# Altium integrated library Comparators.IntLib: 35 symbols
Pins are listed as number, name and electrical type; pins without a type are passive.

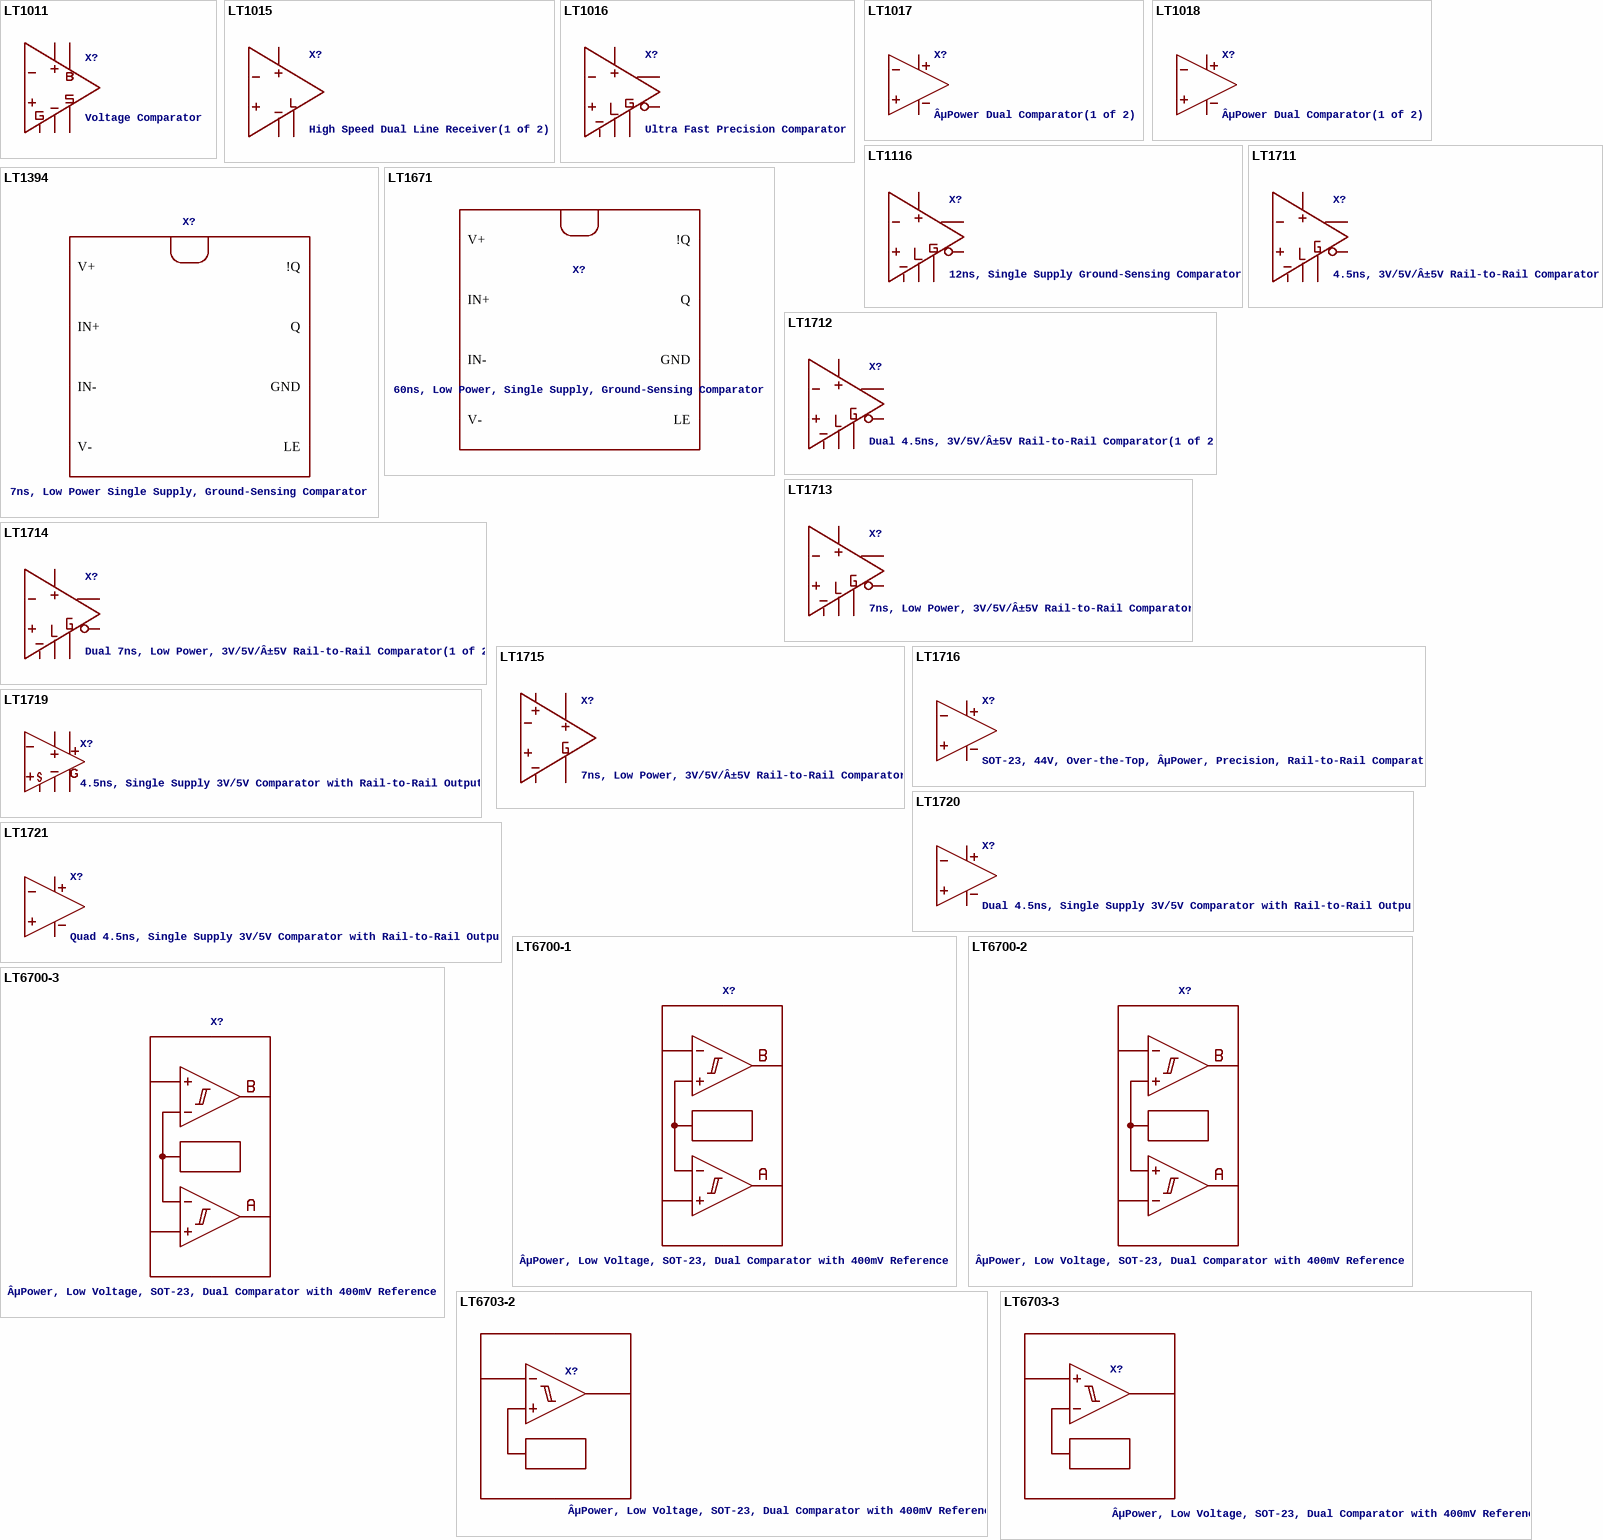
[diagram p0: symbols LT1011 to LT6703-3]

## LT1011
designator X?, comment Voltage Comparator
VALUE2: LT1011; SPICEMODEL: LTC1.lib
pins: ?1 GND, ?2 IN+, ?3 IN-, ?4 V-, ?5 BAL, ?6 STROBE, ?7 OUT, ?8 V+

## LT1015
designator X?, comment High Speed Dual Line Receiver(1 of 2)
VALUE2: LT1015; SPICEMODEL: LTC1.lib
pins: ?1 IN+, ?2 IN-, ?3 VCC, ?4 VEE, ?5 OUT+, ?6 LATCH

## LT1016
designator X?, comment Ultra Fast Precision Comparator
VALUE2: LT1016; SPICEMODEL: LTC.lib
pins: ?1 V+, ?2 IN+, ?3 IN-, ?4 V-, ?5 LATCH, ?6 GND, ?7 OUT+, ?8 OUT-

## LT1017
designator X?, comment ÂµPower Dual Comparator(1 of 2)
VALUE2: LT1017; SPICEMODEL: LTC1.lib
pins: ?1 IN+, ?2 IN-, ?3 V+, ?4 V-, ?5 OUT

## LT1018
designator X?, comment ÂµPower Dual Comparator(1 of 2)
VALUE2: LT1018; SPICEMODEL: LTC1.lib
pins: ?1 IN+, ?2 IN-, ?3 V+, ?4 V-, ?5 OUT

## LT1116
designator X?, comment 12ns, Single Supply Ground-Sensing Comparator
VALUE2: LT1116; SPICEMODEL: LTC.lib
pins: ?1 V+, ?2 IN+, ?3 IN-, ?4 V-, ?5 LATCH, ?6 GND, ?7 OUT+, ?8 OUT-

## LT1394
designator X?, comment 7ns, Low Power Single Supply, Ground-Sensing Comparator
VALUE2: LT1394; SPICEMODEL: LTC.lib
pins: ?1 V+, ?2 IN+, ?3 IN-, ?4 V-, ?5 LE, ?6 GND, ?7 Q, ?8 !Q

## LT1671
designator X?, comment 60ns, Low Power, Single Supply, Ground-Sensing Comparator
VALUE2: LT1671; SPICEMODEL: LTC.lib
pins: ?1 V+, ?2 IN+, ?3 IN-, ?4 V-, ?5 LE, ?6 GND, ?7 Q, ?8 !Q

## LT1711
designator X?, comment 4.5ns, 3V/5V/Â±5V Rail-to-Rail Comparator
VALUE2: LT1711; SPICEMODEL: LTC1.lib
pins: ?1 IN+, ?2 IN-, ?3 V+, ?4 V-, ?5 GND, ?6 OUT+, ?7 OUT-, ?8 LATCH

## LT1712
designator X?, comment Dual 4.5ns, 3V/5V/Â±5V Rail-to-Rail Comparator(1 of 2)
VALUE2: LT1711; SPICEMODEL: LTC1.lib
pins: ?1 IN+, ?2 IN-, ?3 V+, ?4 V-, ?5 GND, ?6 OUT+, ?7 OUT-, ?8 LATCH

## LT1713
designator X?, comment 7ns, Low Power, 3V/5V/Â±5V Rail-to-Rail Comparator
VALUE2: LT1713; SPICEMODEL: LTC1.lib
pins: ?1 IN+, ?2 IN-, ?3 V+, ?4 V-, ?5 GND, ?6 OUT+, ?7 OUT-, ?8 LATCH

## LT1714
designator X?, comment Dual 7ns, Low Power, 3V/5V/Â±5V Rail-to-Rail Comparator(1 of 2)
VALUE2: LT1713; SPICEMODEL: LTC1.lib
pins: ?1 IN+, ?2 IN-, ?3 V+, ?4 V-, ?5 GND, ?6 OUT+, ?7 OUT-, ?8 LATCH

## LT1715
designator X?, comment 7ns, Low Power, 3V/5V/Â±5V Rail-to-Rail Comparator
VALUE2: LT1715; SPICEMODEL: LTC1.lib
pins: ?1 IN+, ?2 IN-, ?3 VCC, ?4 VEE, ?5 VS+, ?6 GND, ?7 OUT

## LT1716
designator X?, comment SOT-23, 44V, Over-the-Top, ÂµPower, Precision, Rail-to-Rail Comparator
VALUE2: LT1716; SPICEMODEL: LTC1.lib
pins: ?1 IN+, ?2 IN-, ?3 V+, ?4 V-, ?5 OUT

## LT1719
designator X?, comment 4.5ns, Single Supply 3V/5V Comparator with Rail-to-Rail Outputs
VALUE2: LT1719; SPICEMODEL: LTC.lib
pins: ?1 V+, ?2 IN+, ?3 IN-, ?4 V-, ?5 GND, ?6 SHDN, ?7 OUT, ?8 VS+

## LT1720
designator X?, comment Dual 4.5ns, Single Supply 3V/5V Comparator with Rail-to-Rail Outputs
VALUE2: LT1720; SPICEMODEL: LTC.lib
pins: ?1 IN+, ?2 IN-, ?3 V+, ?4 V-, ?5 OUT

## LT1721
designator X?, comment Quad 4.5ns, Single Supply 3V/5V Comparator with Rail-to-Rail Outputs
VALUE2: LT1720; SPICEMODEL: LTC.lib
pins: ?1 IN+, ?2 IN-, ?3 V+, ?4 V-, ?5 OUT

## LT6700-1
designator X?, comment ÂµPower, Low Voltage, SOT-23, Dual Comparator with 400mV Reference
VALUE2: LT6700-1; SPICEMODEL: LTC1.lib
pins: ?1 OUTA, ?2 GND, ?3 +INA, ?4 -INB, ?5 VS, ?6 OUTB

## LT6700-2
designator X?, comment ÂµPower, Low Voltage, SOT-23, Dual Comparator with 400mV Reference
VALUE2: LT6700-2; SPICEMODEL: LTC1.lib
pins: ?1 OUTA, ?2 GND, ?3 -INA, ?4 -INB, ?5 VS, ?6 OUTB

## LT6700-3
designator X?, comment ÂµPower, Low Voltage, SOT-23, Dual Comparator with 400mV Reference
VALUE2: LT6700-3; SPICEMODEL: LTC1.lib
pins: ?1 OUTA, ?2 GND, ?3 +INA, ?4 +INB, ?5 VS, ?6 OUTB

## LT6703-2
designator X?, comment ÂµPower, Low Voltage, SOT-23, Dual Comparator with 400mV Reference
VALUE2: LT6703-2; SPICEMODEL: LTC6.lib
pins: ?1 OUT, ?2 GND, ?3 -IN, ?4 VS

## LT6703-3
designator X?, comment ÂµPower, Low Voltage, SOT-23, Dual Comparator with 400mV Reference
VALUE2: LT6703-3; SPICEMODEL: LTC6.lib
pins: ?1 OUT, ?2 GND, ?3 +IN, ?4 VS

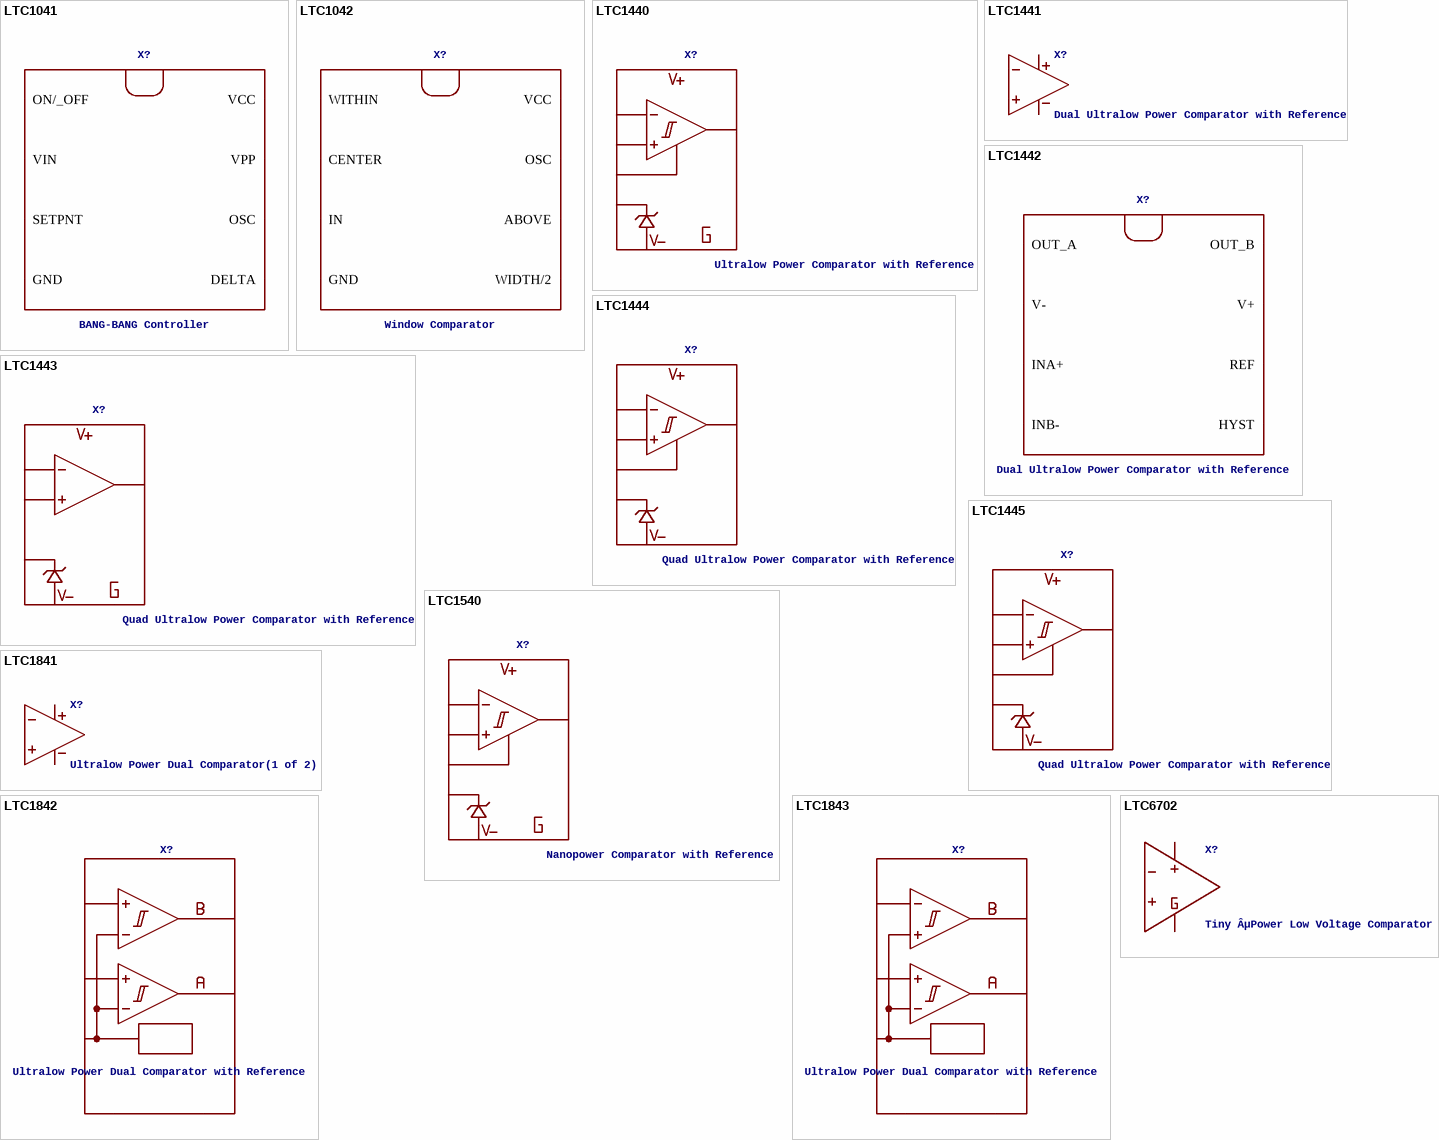
[diagram p1: symbols LTC1041 to LTC6702]

## LTC1041
designator X?, comment BANG-BANG Controller
VALUE2: LTC1041; SPICEMODEL: LTC1041.sub
pins: ?1 ON/_OFF, ?2 VIN, ?3 SETPNT, ?4 GND, ?5 DELTA, ?6 OSC, ?7 VPP, ?8 VCC

## LTC1042
designator X?, comment Window Comparator
VALUE2: LTC1042; SPICEMODEL: LTC1042.sub
pins: ?1 WITHIN, ?2 CENTER, ?3 IN, ?4 GND, ?5 WIDTH/2, ?6 ABOVE, ?7 OSC, ?8 VCC

## LTC1440
designator X?, comment Ultralow Power Comparator with Reference
VALUE2: LTC1440; SPICEMODEL: LTC.lib
pins: ?1 IN+, ?2 IN-, ?3 V+, ?4 V-, ?5 OUT, ?6 GND, ?7 REF, ?8 HYST

## LTC1441
designator X?, comment Dual Ultralow Power Comparator with Reference
VALUE2: LTC1441; SPICEMODEL: LTC.lib
pins: ?1 OUT, ?2 V-, ?3 IN+, ?4 IN-, ?5 V+

## LTC1442
designator X?, comment Dual Ultralow Power Comparator with Reference
VALUE2: LTC1442; SPICEMODEL: LTC.lib
pins: ?1 OUT_A, ?2 V-, ?3 INA+, ?4 INB-, ?5 HYST, ?6 REF, ?7 V+, ?8 OUT_B

## LTC1443
designator X?, comment Quad Ultralow Power Comparator with Reference
VALUE2: LTC1443; SPICEMODEL: LTC.lib
pins: ?1 OUT, ?2 V+, ?3 IN-, ?4 IN+, ?5 REF, ?6 V-, ?7 GND

## LTC1444
designator X?, comment Quad Ultralow Power Comparator with Reference
VALUE2: LTC1444; SPICEMODEL: LTC.lib
pins: ?1 OUT, ?2 V+, ?3 IN-, ?4 IN+, ?5 REF, ?6 V-, ?7 HYST

## LTC1445
designator X?, comment Quad Ultralow Power Comparator with Reference
VALUE2: LTC1445; SPICEMODEL: LTC.lib
pins: ?1 OUT, ?2 V+, ?3 IN-, ?4 IN+, ?5 REF, ?6 V-, ?7 HYST

## LTC1540
designator X?, comment Nanopower Comparator with Reference
VALUE2: LTC1540; SPICEMODEL: LTC.lib
pins: ?1 GND, ?2 V-, ?3 IN+, ?4 IN-, ?5 HYST, ?6 REF, ?7 V+, ?8 OUT

## LTC1841
designator X?, comment Ultralow Power Dual Comparator(1 of 2)
VALUE2: LTC1841; SPICEMODEL: LTC1.lib
pins: ?1 IN+, ?2 IN-, ?3 V+, ?4 V-, ?5 OUT

## LTC1842
designator X?, comment Ultralow Power Dual Comparator with Reference
VALUE2: LTC1842; SPICEMODEL: LTC1.lib
pins: ?1 OUTA, ?2 GND, ?3 INA+, ?4 INB+, ?5 HYST, ?6 REF, ?7 VCC, ?8 OUTB

## LTC1843
designator X?, comment Ultralow Power Dual Comparator with Reference
VALUE2: LTC1843; SPICEMODEL: LTC1.lib
pins: ?1 OUTA, ?2 GND, ?3 INA+, ?4 INB-, ?5 HYST, ?6 REF, ?7 VCC, ?8 OUTB

## LTC6702
designator X?, comment Tiny ÂµPower Low Voltage Comparator
VALUE2: LTC6702; SPICEMODEL: LTC3.lib
pins: ?1 IN+, ?2 IN-, ?3 V+, ?4 GND, ?5 OUT